# EAGLE library part MC34063A (library CaliBeta-Integrados-8pin)
Convertidor DC/DC elevador,reductor, inversor 40V - 1.5A
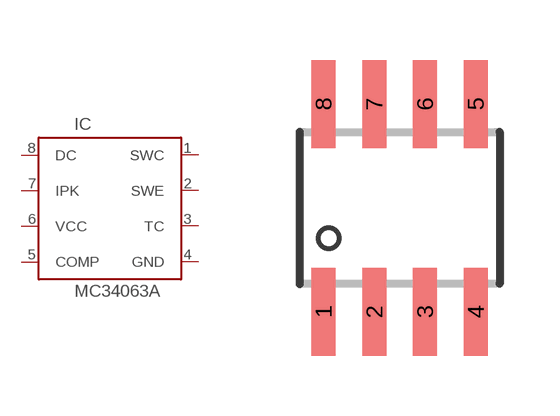
[diagram p2: symbol with the pads of SOIC-8; footprint SOIC-8]

Designator prefix IC

## MC34063A  [SOIC-8]
1  SWC
2  SWE
3  TC
4  GND  pwr
5  COMP
6  VCC  pwr
7  IPK
8  DC

## Footprint SOIC-8 (pad centres in mm)
smd 0.6 x 2.2: 1 -1.905,-2.6; 2 -0.635,-2.6; 3 0.635,-2.6; 4 1.905,-2.6; 5 1.905,2.6; 6 0.635,2.6; 7 -0.635,2.6; 8 -1.905,2.6